# Altium schematic symbol library VS1000D.SchLib: 1 symbol
Pins are listed as number, name and electrical type; pins without a type are passive.

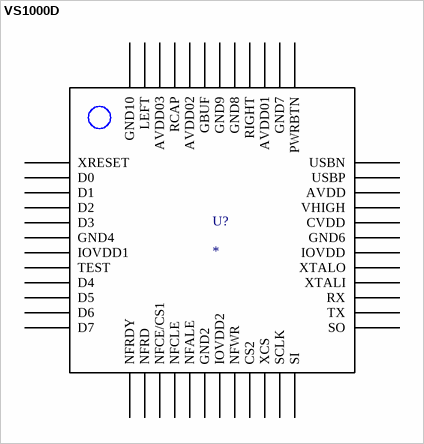
[diagram p0: symbol VS1000D]

## VS1000D
designator U?
PartNumber: VS1000D-L; Manufacturer: VLSI Solution; PartDescription: SYSTEM ON CHIP AUDIO CODEC PLAYER; Package Type: LQFP 48
footprint LQFP-48
pins: 1 XRESET, 2 D0, 3 D1, 4 D2, 5 D3, 6 GND4, 7 IOVDD1, 8 TEST, 9 D4, 10 D5, 11 D6, 12 D7, 13 NFRDY, 14 NFRD, 15 NFCE/CS1, 16 NFCLE, 17 NFALE, 18 GND2, 19 IOVDD2, 20 NFWR, 21 CS2, 22 XCS, 23 SCLK, 24 SI, 25 SO, 26 TX, 27 RX, 28 XTALI, 29 XTALO, 30 IOVDD, 31 GND6, 32 CVDD, 33 VHIGH, 34 AVDD, 35 USBP, 36 USBN, 37 PWRBTN, 38 GND7, 39 AVDD01, 40 RIGHT, 41 GND8, 42 GND9, 43 GBUF, 44 AVDD02, 45 RCAP, 46 AVDD03, 47 LEFT, 48 GND10